# EAGLE library part 2X25_ANGLED_FEMALE_PIN_HEADER (library FEMALE_PIN_HEADER_2x25)
2x25 Angled Female Pin Header - 0.1" pitch Datasheet: http://media.digikey.com/pdf/Data%20Sheets/Sullins%20PDFs/SFH11-PxxC-Dxx-RA-xx%2011161-C.pdf
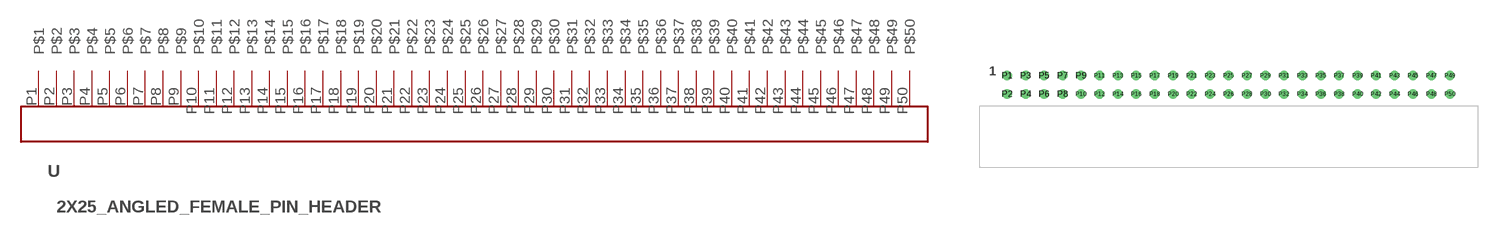
[diagram p0: symbol with the pads of 2X25_PIN; footprint 2X25_PIN]

Designator prefix -

## 2X25_ANGLED_FEMALE_PIN_HEADER  [2X25_PIN]
P1  P$1
P2  P$2
P3  P$3
P4  P$4
P5  P$5
P6  P$6
P7  P$7
P8  P$8
P9  P$9
P10  P$10
P11  P$11
P12  P$12
P13  P$13
P14  P$14
P15  P$15
P16  P$16
P17  P$17
P18  P$18
P19  P$19
P20  P$20
P21  P$21
P22  P$22
P23  P$23
P24  P$24
P25  P$25
P26  P$26
P27  P$27
P28  P$28
P29  P$29
P30  P$30
P31  P$31
P32  P$32
P33  P$33
P34  P$34
P35  P$35
P36  P$36
P37  P$37
P38  P$38
P39  P$39
P40  P$40
P41  P$41
P42  P$42
P43  P$43
P44  P$44
P45  P$45
P46  P$46
P47  P$47
P48  P$48
P49  P$49
P50  P$50

## Footprint 2X25_PIN (pad centres in mm)
2x25 pin right angle through hole pin header. 0.1" pitch
drill 0.8: P1 -30.48,1.27; P2 -30.48,-1.27; P3 -27.94,1.27; P4 -27.94,-1.27; P5 -25.4,1.27; P6 -25.4,-1.27; P7 -22.86,1.27; P8 -22.86,-1.27; P9 -20.32,1.27; P10 -20.32,-1.27; P11 -17.78,1.27; P12 -17.78,-1.27; P13 -15.24,1.27; P14 -15.24,-1.27; P15 -12.7,1.27; P16 -12.7,-1.27; P17 -10.16,1.27; P18 -10.16,-1.27; P19 -7.62,1.27; P20 -7.62,-1.27; P21 -5.08,1.27; P22 -5.08,-1.27; P23 -2.54,1.27; P24 -2.54,-1.27; P25 0,1.27; P26 0,-1.27; P27 2.54,1.27; P28 2.54,-1.27; P29 5.08,1.27; P30 5.08,-1.27; P31 7.62,1.27; P32 7.62,-1.27; P33 10.16,1.27; P34 10.16,-1.27; P35 12.7,1.27; P36 12.7,-1.27; P37 15.24,1.27; P38 15.24,-1.27; P39 17.78,1.27; P40 17.78,-1.27; P41 20.32,1.27; P42 20.32,-1.27; P43 22.86,1.27; P44 22.86,-1.27; P45 25.4,1.27; P46 25.4,-1.27; P47 27.94,1.27; P48 27.94,-1.27; P49 30.48,1.27; P50 30.48,-1.27